# Altium schematic symbol library AYF530465T.SchLib: 1 symbol
Pins are listed as number, name and electrical type; pins without a type are passive.

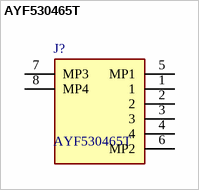
[diagram p0: symbol AYF530465T]

## AYF530465T
designator J?
Conn FPC Connector SKT 4 POS 0.5mm Solder RA SMD T/R; Manufacturer_Name: Panasonic; Geometry.Height: 1.76mm; Manufacturer_Part_Number: AYF530465T; Arrow Part Number: AYF530465T; Arrow Price/Stock: null?region=nac; Datasheet Link: https://api.pim.na.industrial.panasonic.com/file_stream/main/fileversion/1656
footprint AYF530465T
pins: 1, 2, 3, 4, 5 MP1, 6 MP2, 7 MP3, 8 MP4